# Altium footprint library PDC1620B0011.PcbLib: 1 footprints
Each footprint in its own frame and in the unit in brackets; x right, y up, seen from the top. Pads: shape width x height; smd on the part's side, far side on the other; paste and mask are expansions set on the pad; w line width, h text height; cw(c..) or ccw(c..) is an arc to the next point about the centre after c.
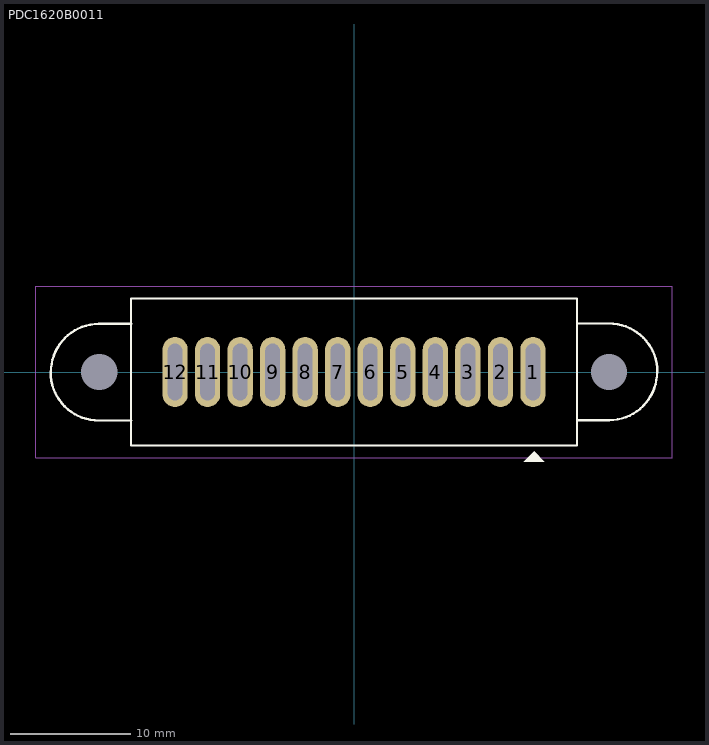
[diagram p0: the footprint, top view; thin cyan lines are the x and y axes]

## PDC1620B0011 [mm]
pads (14):
  round 0 hole 3 unplated: 0(-21.15,0) 0(21.15,0)
  rrect100% 2.1x5.8 hole 1.2 slot 4.7 at 90 deg mask-0.45: 1(14.844,0) 2(12.144,0) 3(9.444,0) 4(6.744,0) 5(4.044,0) 6(1.344,0) 7(-1.356,0) 8(-4.056,0) 9(-6.756,0) 10(-9.456,0) 11(-12.156,0) 12(-14.856,0)
Top Overlay:
  region: 15.802,-7.427 14.095,-7.427 14.948,-6.573
  lines w0.2: -25.186,-0.025 ccw(c-21.186,-0.025) -21.186,-4.025 -18.5,-4.025 ; -25.161,-0.024 cw(c-21.161,0) -21.185,4 ; -21.186,4 -18.5,4 ; 18.5,-4 21.175,-4 ; 18.5,4.025 21.175,4.025 cw(c21.175,0.025) 25.175,0.025 ; 21.174,-4 ccw(c21.15,0) 25.15,0.024 ; -18.511,-6.1 -18.511,6.1 18.5,6.1 18.5,-6.1 -18.511,-6.1
Top Courtyard:
  lines w0.1: -26.411,-7.1 -26.411,7.1 26.4,7.1 26.4,-7.1 18.5,-7.1 -26.411,-7.1
3D body "SPCBT0052.STEP": height 7, standoff -2.2, extent -25.15,-6.1 25.128,6.1